# Altium schematic symbol library aroshaD.SchLib: 12 symbols
Pins are listed as number, name and electrical type; pins without a type are passive.

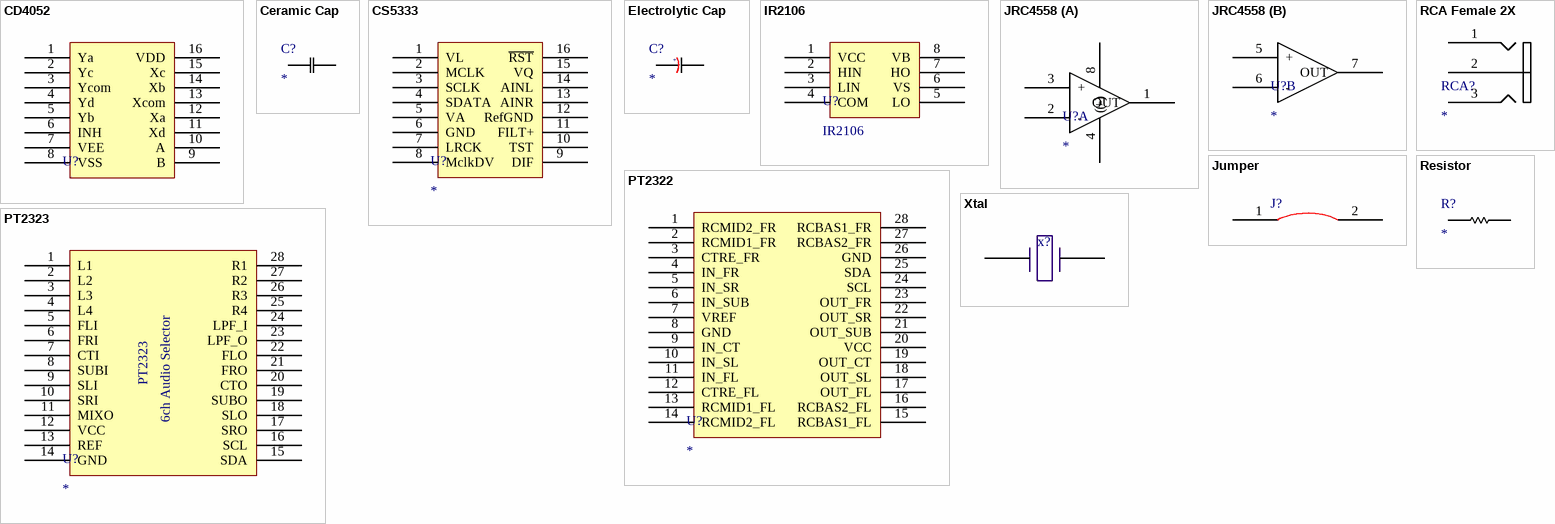
[diagram p0: symbols CD4052 to Xtal]

## CD4052
designator U?  (value not drawn)
footprint CD4052- SOP16
pins: 1 Ya, 2 Yc, 3 Ycom, 4 Yd, 5 Yb, 6 INH, 7 VEE, 8 VSS, 9 B, 10 A, 11 Xd, 12 Xa, 13 Xcom, 14 Xb, 15 Xc, 16 VDD

## Ceramic Cap
designator C?
footprint Ceramic Cap - 80mil pad
pins: 1 8, 2 9

## CS5333
designator U?
CS5333
footprint CS5333
pins: 1 VL, 2 MCLK, 3 SCLK, 4 SDATA, 5 VA, 6 GND, 7 LRCK, 8 MclkDV, 9 DIF, 10 TST, 11 FILT+, 12 RefGND, 13 AINR, 14 AINL, 15 VQ, 16 ~{RST}

## Electrolytic Cap
designator C?
footprint 100mil CAP - 80mil pad
pins: 1 8, 2 9
text: +

## IR2106
designator U?
pins: 1 VCC, 2 HIN, 3 LIN, 4 COM, 5 LO, 6 VS, 7 HO, 8 VB

## JRC4558
designator U?
footprint JRC4558
part A pins: 1 OUT, 2 -, 3 +, 4 (-), 8 (+)
part B pins: 5 +, 6 -, 7 OUT

## Jumper
designator J?  (value not drawn)
footprint Jumper_100
footprint Jumper_200
footprint Jumper_300
footprint Jumper_400
footprint Jumper_500
footprint Jumper_600
footprint Jumper_700
footprint Jumper_800
footprint Jumper_900
footprint Jumper_1000
footprint Jumper_1100
footprint Jumper_1200
footprint Jumper_1300
footprint Jumper_1400
footprint Jumper_1500
pins: 1, 2

## PT2322
designator U?
footprint PT2322
pins: 1 RCMID2_FR, 2 RCMID1_FR, 3 CTRE_FR, 4 IN_FR, 5 IN_SR, 6 IN_SUB, 7 VREF, 8 GND, 9 IN_CT, 10 IN_SL, 11 IN_FL, 12 CTRE_FL, 13 RCMID1_FL, 14 RCMID2_FL, 15 RCBAS1_FL, 16 RCBAS2_FL, 17 OUT_FL, 18 OUT_SL, 19 OUT_CT, 20 VCC, 21 OUT_SUB, 22 OUT_SR, 23 OUT_FR, 24 SCL, 25 SDA, 26 GND, 27 RCBAS2_FR, 28 RCBAS1_FR

## PT2323
designator U?
footprint PT2323
pins: 1 L1, 2 L2, 3 L3, 4 L4, 5 FLI, 6 FRI, 7 CTI, 8 SUBI, 9 SLI, 10 SRI, 11 MIXO, 12 VCC, 13 REF, 14 GND, 15 SDA, 16 SCL, 17 SRO, 18 SLO, 19 SUBO, 20 CTO, 21 FRO, 22 FLO, 23 LPF_O, 24 LPF_I, 25 R4, 26 R3, 27 R2, 28 R1
text: 6ch Audio Selector

## RCA Female 2X
designator RCA?
footprint RCA Female 2X
pins: 1, 2, 3

## Resistor
designator R?
footprint Resistor 100MIL
footprint Resistor 100MIL - 80mil pad
footprint Resistor 200MIL
footprint Resistor 200MIL - 80mil pad
footprint Resistor 300MIL
footprint Resistor 300MIL - 80mil pad
pins: 1 6, 2 7

## Xtal
designator x?  (value not drawn)
footprint Xtal
pins: 1, 2